# EAGLE library part MCP73833 (library quentin)
LIPO CHARGER
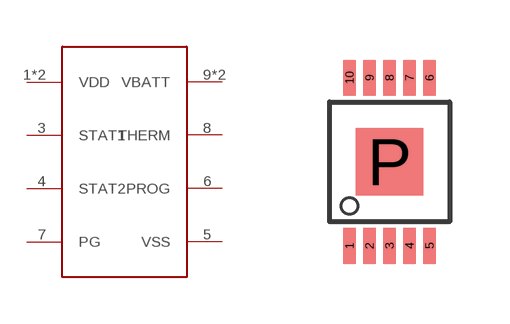
[diagram p11: symbol with the pads of MSOP10; footprint MSOP10]

Designator prefix -

## MCP73833  [MSOP10]
1  VDD
2  VDD
3  STAT1
4  STAT2
5  VSS
6  PROG
7  PG
8  THERM
9  VBATT
10  VBATT

## Footprint MSOP10 (pad centres in mm)
smd 0.305 x 0.889: 1 0,0; 2 0.5,0; 3 1,0; 4 1.5,0; 5 2,0; 6 2,4.211; 7 1.5,4.211; 8 1,4.211; 9 0.5,4.211; 10 0,4.211
smd 1.68 x 1.68: P 1,2.106